# Altium schematic symbol library con-harting.SCHLIB: 26 symbols
Pins are listed as number, name and electrical type; pins without a type are passive.

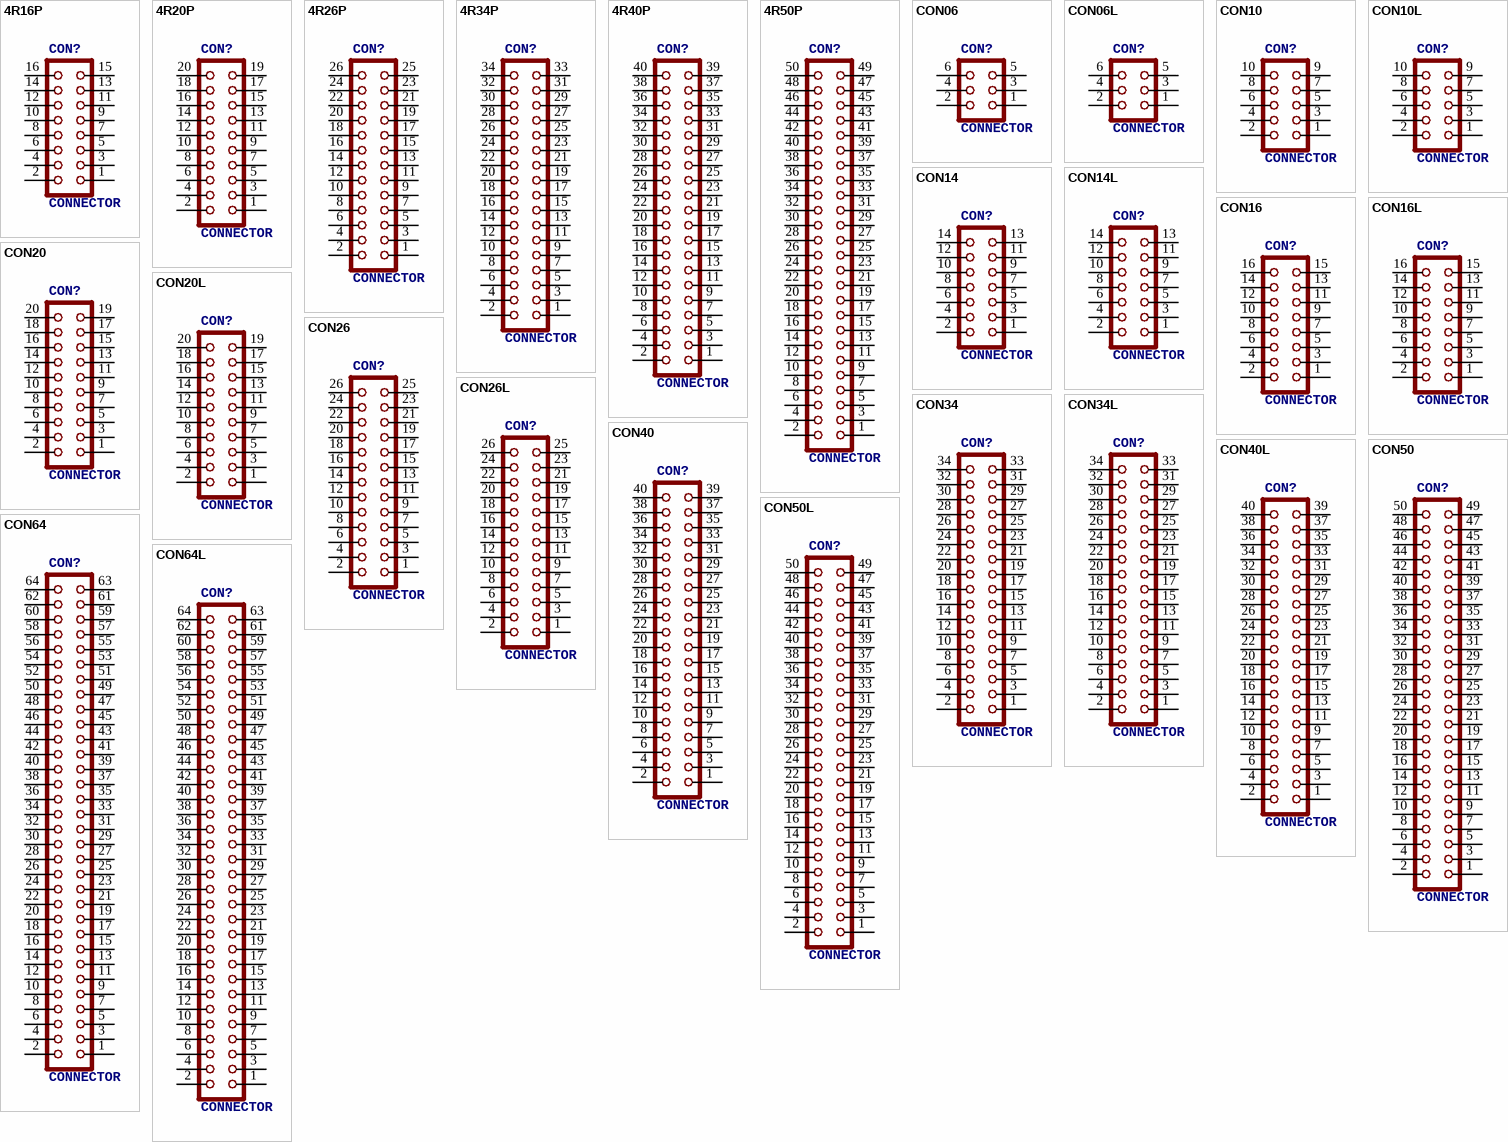
[diagram p0: symbols 4R16P to CON64L]

## 4R16P
designator CON?, comment CONNECTOR
OC_FARNELL: unknown; OC_NEWARK: unknown
footprint 4R16P
pins: 1, 2, 3, 4, 5, 6, 7, 8, 9, 10, 11, 12, 13, 14, 15, 16

## 4R20P
designator CON?, comment CONNECTOR
OC_FARNELL: unknown; OC_NEWARK: unknown
footprint 4R20P
pins: 1, 2, 3, 4, 5, 6, 7, 8, 9, 10, 11, 12, 13, 14, 15, 16, 17, 18, 19, 20

## 4R26P
designator CON?, comment CONNECTOR
OC_FARNELL: unknown; OC_NEWARK: unknown
footprint 4R26P
pins: 1, 2, 3, 4, 5, 6, 7, 8, 9, 10, 11, 12, 13, 14, 15, 16, 17, 18, 19, 20, 21, 22, 23, 24, 25, 26

## 4R34P
designator CON?, comment CONNECTOR
OC_FARNELL: unknown; OC_NEWARK: unknown
footprint 4R34P
pins: 1, 2, 3, 4, 5, 6, 7, 8, 9, 10, 11, 12, 13, 14, 15, 16, 17, 18, 19, 20, 21, 22, 23, 24, 25, 26, 27, 28, 29, 30, 31, 32, 33, 34

## 4R40P
designator CON?, comment CONNECTOR
OC_FARNELL: unknown; OC_NEWARK: unknown
footprint 4R40P
pins: 1, 2, 3, 4, 5, 6, 7, 8, 9, 10, 11, 12, 13, 14, 15, 16, 17, 18, 19, 20, 21, 22, 23, 24, 25, 26, 27, 28, 29, 30, 31, 32, 33, 34, 35, 36, 37, 38, 39, 40

## 4R50P
designator CON?, comment CONNECTOR
OC_FARNELL: unknown; OC_NEWARK: unknown
footprint 4R50P
pins: 1, 2, 3, 4, 5, 6, 7, 8, 9, 10, 11, 12, 13, 14, 15, 16, 17, 18, 19, 20, 21, 22, 23, 24, 25, 26, 27, 28, 29, 30, 31, 32, 33, 34, 35, 36, 37, 38, 39, 40, 41, 42, 43, 44, 45, 46, 47, 48, 49, 50

## CON06
designator CON?, comment CONNECTOR
OC_FARNELL: unknown; OC_NEWARK: unknown
footprint CON06
pins: 1, 2, 3, 4, 5, 6

## CON06L
designator CON?, comment CONNECTOR
OC_FARNELL: unknown; OC_NEWARK: unknown
footprint CON06L
pins: 1, 2, 3, 4, 5, 6

## CON10
designator CON?, comment CONNECTOR
OC_FARNELL: unknown; OC_NEWARK: unknown
footprint CON10
pins: 1, 2, 3, 4, 5, 6, 7, 8, 9, 10

## CON10L
designator CON?, comment CONNECTOR
OC_FARNELL: unknown; OC_NEWARK: unknown
footprint CON10L
pins: 1, 2, 3, 4, 5, 6, 7, 8, 9, 10

## CON14
designator CON?, comment CONNECTOR
OC_FARNELL: unknown; OC_NEWARK: unknown
footprint CON14
pins: 1, 2, 3, 4, 5, 6, 7, 8, 9, 10, 11, 12, 13, 14

## CON14L
designator CON?, comment CONNECTOR
OC_FARNELL: unknown; OC_NEWARK: unknown
footprint CON14L
pins: 1, 2, 3, 4, 5, 6, 7, 8, 9, 10, 11, 12, 13, 14

## CON16
designator CON?, comment CONNECTOR
OC_FARNELL: unknown; OC_NEWARK: unknown
footprint CON16
pins: 1, 2, 3, 4, 5, 6, 7, 8, 9, 10, 11, 12, 13, 14, 15, 16

## CON16L
designator CON?, comment CONNECTOR
OC_FARNELL: unknown; OC_NEWARK: unknown
footprint CON16L
pins: 1, 2, 3, 4, 5, 6, 7, 8, 9, 10, 11, 12, 13, 14, 15, 16

## CON20
designator CON?, comment CONNECTOR
OC_FARNELL: unknown; OC_NEWARK: unknown
footprint CON20
pins: 1, 2, 3, 4, 5, 6, 7, 8, 9, 10, 11, 12, 13, 14, 15, 16, 17, 18, 19, 20

## CON20L
designator CON?, comment CONNECTOR
OC_FARNELL: unknown; OC_NEWARK: unknown
footprint CON20L
pins: 1, 2, 3, 4, 5, 6, 7, 8, 9, 10, 11, 12, 13, 14, 15, 16, 17, 18, 19, 20

## CON26
designator CON?, comment CONNECTOR
OC_FARNELL: unknown; OC_NEWARK: unknown
footprint CON26
pins: 1, 2, 3, 4, 5, 6, 7, 8, 9, 10, 11, 12, 13, 14, 15, 16, 17, 18, 19, 20, 21, 22, 23, 24, 25, 26

## CON26L
designator CON?, comment CONNECTOR
OC_FARNELL: unknown; OC_NEWARK: unknown
footprint CON26L
pins: 1, 2, 3, 4, 5, 6, 7, 8, 9, 10, 11, 12, 13, 14, 15, 16, 17, 18, 19, 20, 21, 22, 23, 24, 25, 26

## CON34
designator CON?, comment CONNECTOR
OC_FARNELL: unknown; OC_NEWARK: unknown
footprint CON34
pins: 1, 2, 3, 4, 5, 6, 7, 8, 9, 10, 11, 12, 13, 14, 15, 16, 17, 18, 19, 20, 21, 22, 23, 24, 25, 26, 27, 28, 29, 30, 31, 32, 33, 34

## CON34L
designator CON?, comment CONNECTOR
OC_FARNELL: unknown; OC_NEWARK: unknown
footprint CON34L
pins: 1, 2, 3, 4, 5, 6, 7, 8, 9, 10, 11, 12, 13, 14, 15, 16, 17, 18, 19, 20, 21, 22, 23, 24, 25, 26, 27, 28, 29, 30, 31, 32, 33, 34

## CON40
designator CON?, comment CONNECTOR
OC_FARNELL: unknown; OC_NEWARK: unknown
footprint CON40
pins: 1, 2, 3, 4, 5, 6, 7, 8, 9, 10, 11, 12, 13, 14, 15, 16, 17, 18, 19, 20, 21, 22, 23, 24, 25, 26, 27, 28, 29, 30, 31, 32, 33, 34, 35, 36, 37, 38, 39, 40

## CON40L
designator CON?, comment CONNECTOR
OC_FARNELL: unknown; OC_NEWARK: unknown
footprint CON40L
pins: 1, 2, 3, 4, 5, 6, 7, 8, 9, 10, 11, 12, 13, 14, 15, 16, 17, 18, 19, 20, 21, 22, 23, 24, 25, 26, 27, 28, 29, 30, 31, 32, 33, 34, 35, 36, 37, 38, 39, 40

## CON50
designator CON?, comment CONNECTOR
OC_FARNELL: unknown; OC_NEWARK: unknown
footprint CON50
pins: 1, 2, 3, 4, 5, 6, 7, 8, 9, 10, 11, 12, 13, 14, 15, 16, 17, 18, 19, 20, 21, 22, 23, 24, 25, 26, 27, 28, 29, 30, 31, 32, 33, 34, 35, 36, 37, 38, 39, 40, 41, 42, 43, 44, 45, 46, 47, 48, 49, 50

## CON50L
designator CON?, comment CONNECTOR
OC_FARNELL: unknown; OC_NEWARK: unknown
footprint CON50L
pins: 1, 2, 3, 4, 5, 6, 7, 8, 9, 10, 11, 12, 13, 14, 15, 16, 17, 18, 19, 20, 21, 22, 23, 24, 25, 26, 27, 28, 29, 30, 31, 32, 33, 34, 35, 36, 37, 38, 39, 40, 41, 42, 43, 44, 45, 46, 47, 48, 49, 50

## CON64
designator CON?, comment CONNECTOR
OC_FARNELL: unknown; OC_NEWARK: unknown
footprint CON64
pins: 1, 2, 3, 4, 5, 6, 7, 8, 9, 10, 11, 12, 13, 14, 15, 16, 17, 18, 19, 20, 21, 22, 23, 24, 25, 26, 27, 28, 29, 30, 31, 32, 33, 34, 35, 36, 37, 38, 39, 40, 41, 42, 43, 44, 45, 46, 47, 48, 49, 50, 51, 52, 53, 54, 55, 56, 57, 58, 59, 60, 61, 62, 63, 64

## CON64L
designator CON?, comment CONNECTOR
OC_FARNELL: unknown; OC_NEWARK: unknown
footprint CON64L
pins: 1, 2, 3, 4, 5, 6, 7, 8, 9, 10, 11, 12, 13, 14, 15, 16, 17, 18, 19, 20, 21, 22, 23, 24, 25, 26, 27, 28, 29, 30, 31, 32, 33, 34, 35, 36, 37, 38, 39, 40, 41, 42, 43, 44, 45, 46, 47, 48, 49, 50, 51, 52, 53, 54, 55, 56, 57, 58, 59, 60, 61, 62, 63, 64